# Altium schematic symbol library ESDPSA0402V05.SchLib: 1 symbol
Pins are listed as number, name and electrical type; pins without a type are passive.

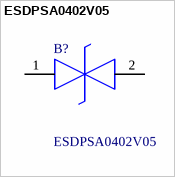
[diagram p0: symbol ESDPSA0402V05]

## ESDPSA0402V05
designator B?
Polymer ESD Suppressor; Manufacturer_Name: Good-Ark; Geometry.Height: 0.45mm; Manufacturer_Part_Number: ESDPSA0402V05; Mouser Part Number: *; Mouser Price/Stock: *; Arrow Part Number: *; Arrow Price/Stock: *; Datasheet Link: https://4donline.ihs.com/images/VipMasterIC/IC/GOAE/GOAE-S-A0000149384/GOAE-S-A0000149384-1.pdf?hkey=EF798316E3902B6ED9A73243A3159BB0
footprint ESDPSA0402V05
pins: 1 K1, 2 K2